# Altium schematic symbol library Schlib1.SchLib: 6 symbols
Pins are listed as number, name and electrical type; pins without a type are passive.

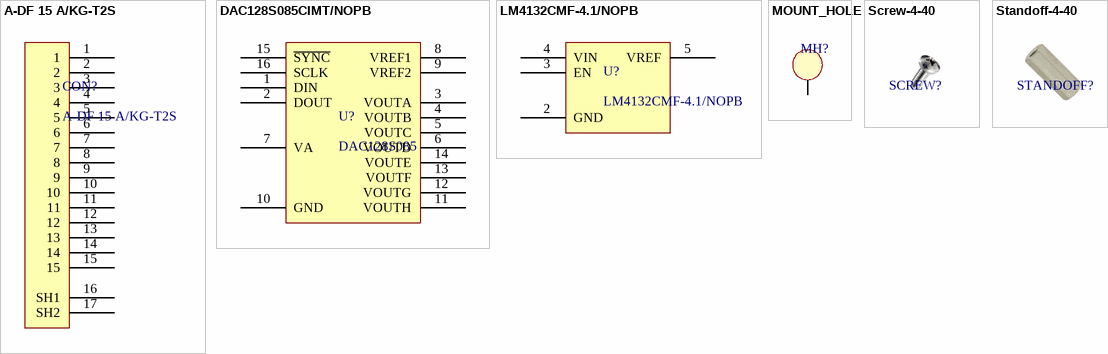
[diagram p0: symbols A-DF 15 A/KG-T2S to Standoff-4-40]

## A-DF 15 A/KG-T2S
designator CON?
CONN D-SUB RCPT 15POS R/A SOLDER
footprint A-DF 15 A/KG-T2S (CONN D-SUB RCPT 15POS R/A SOLDER)
pins: 1, 2, 3, 4, 5, 6, 7, 8, 9, 10, 11, 12, 13, 14, 15, 16 SH1, 17 SH2

## DAC128S085CIMT/NOPB
designator U?, comment DAC128S085
IC DAC 12BIT 8CH RR OUT 16TSSOP; Supplier 1: Digi-Key; Supplier Part Number 1: DAC128S085CIMT/NOPB-ND
footprint TSOP65P640X120-16N (TSOP, 16-Leads, Body 5.00x4.40mm, Pitch 0.65mm, IPC Medium Density)
pins: 1 DIN, 2 DOUT, 3 VOUTA, 4 VOUTB, 5 VOUTC, 6 VOUTD, 7 VA, 8 VREF1, 9 VREF2, 10 GND, 11 VOUTH, 12 VOUTG, 13 VOUTF, 14 VOUTE, 15 ~{SYNC}, 16 SCLK

## LM4132CMF-4.1/NOPB
designator U?
IC VREF SERIES 4.096V SOT23-5; Supplier 1: Digi-Key; Supplier Part Number 1: LM4132CMF-4.1/NOPBCT-ND
footprint SOT95P280X145-5N (SOT23, 5-Leads, Body 2.90x2.80mm, Pitch 0.95mm, IPC Medium Density)
pins: 2 GND, 3 EN, 4 VIN, 5 VREF

## MOUNT_HOLE
designator MH?  (value not drawn)  (mechanical)
MOUNTING HOLE, 4-40
footprint MOUNTING_HOLE
pins: 1

## Screw-4-40
designator SCREW?  (value not drawn)
Supplier 1: Digi-Key; Supplier Part Number 1: KEY1046-ND

## Standoff-4-40
designator STANDOFF?  (value not drawn)  (mechanical)
Supplier 1: Digi-Key; Supplier Part Number 1: 36-1656-ND